# Altium footprint library libreriaPcb.PcbLib: 683 footprints (part 41 of 44)
Each footprint in its own frame and in the unit in brackets; x right, y up, seen from the top. Pads: shape width x height; smd on the part's side, far side on the other; paste and mask are expansions set on the pad; w line width, h text height; cw(c..) or ccw(c..) is an arc to the next point about the centre after c.
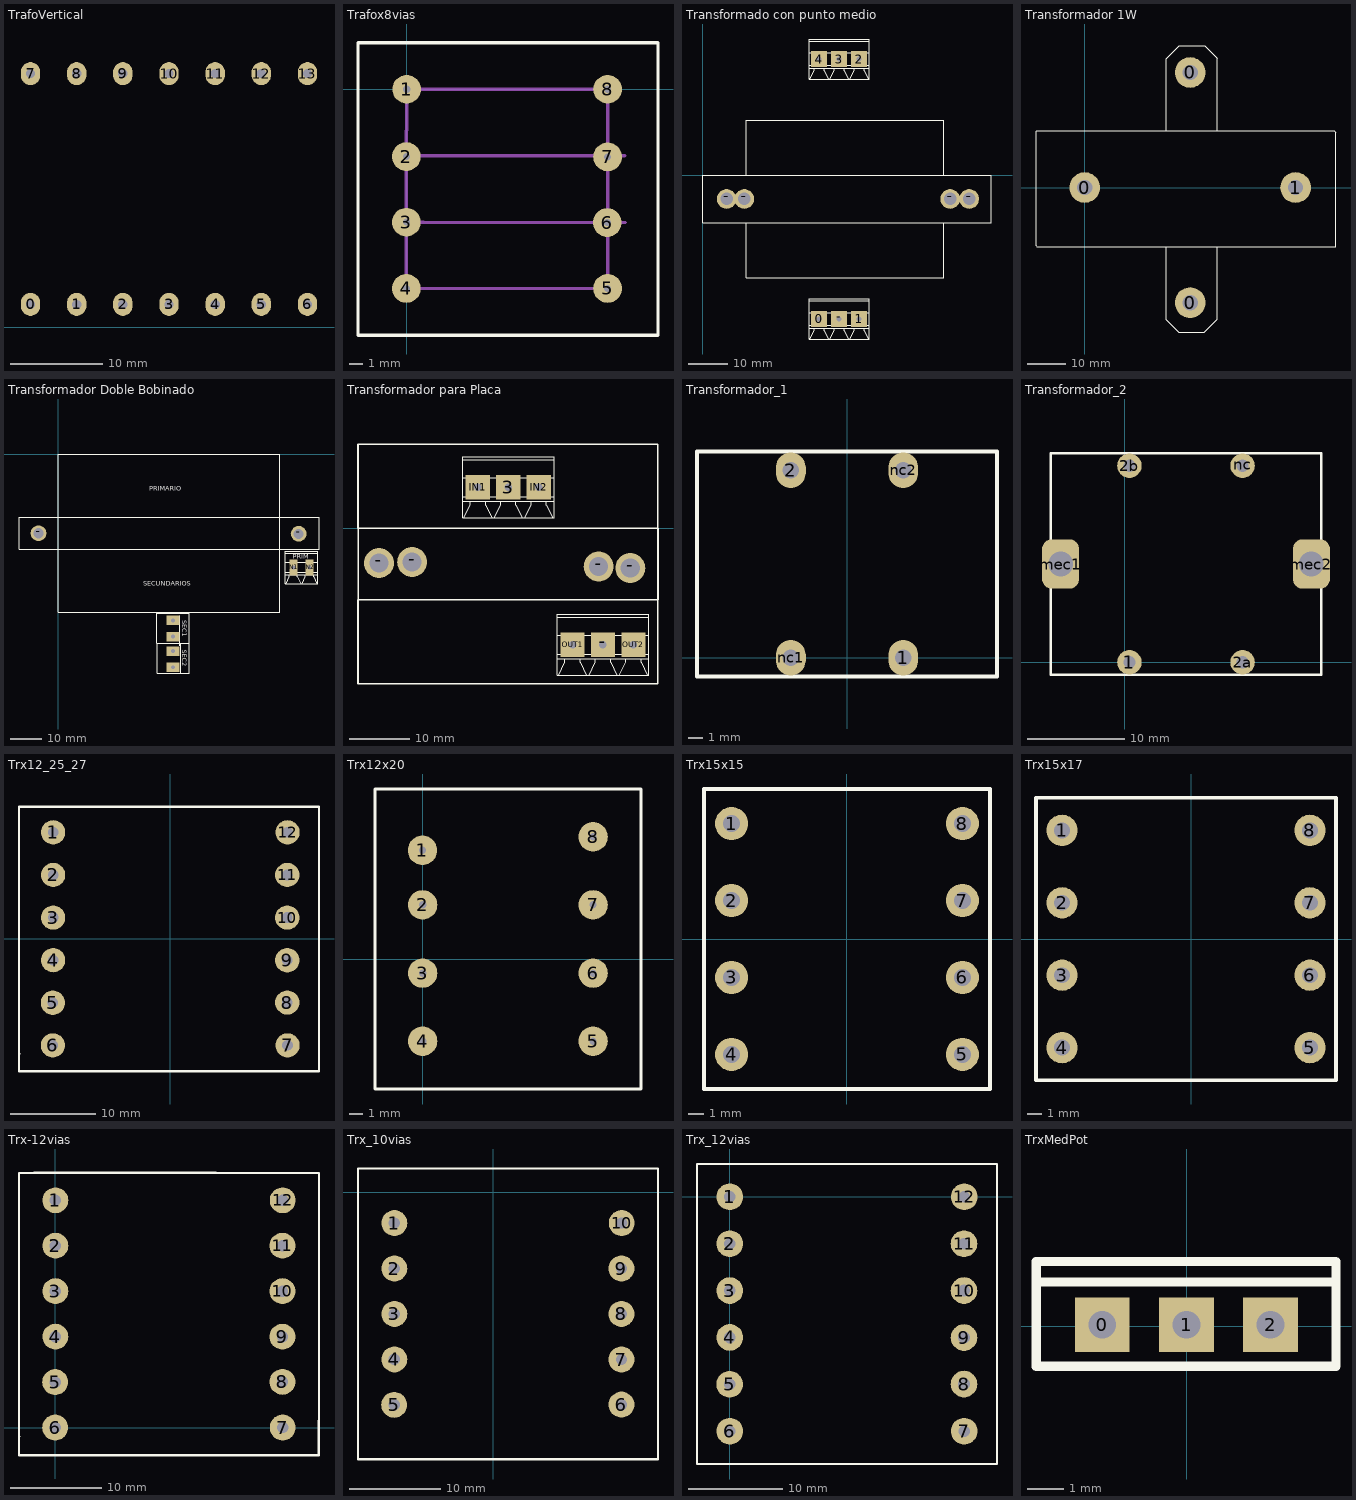
[diagram p40: the footprints below, top view; thin cyan lines are the x and y axes]

## TrafoVertical [mm]
height 50
pads (14):
  oval 2.1x2.5 hole 1: 0(6,2.5) 1(11,2.5) 2(16,2.5) 3(21,2.5) 4(26,2.5) 5(31,2.5) 6(36,2.5) 7(6,27.5) 8(11,27.5) 9(16,27.5) 10(21,27.5) 11(26,27.5) 12(31,27.5) 13(36,27.5)
3D body: height 15, standoff 12, extent 7.111,1.028 35,28.973
3D body: height 43, standoff 40, extent 7.11,1.028 35,28.972
3D body: height 50, standoff 43, extent 0,7.5 42,22.5
3D body: height 43, standoff 11.5, extent 34,7.5 42,22.5
3D body: height 43, standoff 11.5, extent 0,7.5 8,22.5
3D body: height 11.5, standoff 4.5, extent 0,7.5 42,22.5
3D body: height 42, standoff 12, extent 13.063,7.016 29,22.984
3D body: height 12, standoff 0, extent 0,23.25 42,29.75
3D body: height 12, standoff 0, extent 0,0 42,6.5

## Trafox8vias [mil]
pads (8):
  round 85 hole 21: 1(0,0) 2(-1,-199) 3(-1,-393) 4(-1,-589) 5(594,-589) 6(593,-394) 7(594,-200) 8(594,0)
Top Overlay:
  lines w10: -144,-727.56 743,-727.56 743,-37.53 743,137.8 -26.17,137.8 -144,137.8 -144,-35.31 -144,-158.94 -144,-727.56
Mechanical 1:
  lines w10: -13,-196.46 51,-196.46 645,-196.46 ; 51,-393.31 -12,-393.31 -12,-394 647,-394 ; -1,-589 -1,-122.46 0,-121.46 0,0 594,0 594,-589 -1,-589
3D body: height 393.7, standoff 196.85, extent -148.8,-738 751.2,147.8
3D body: height 590.55, standoff 39.37, extent -145,-732.56 741,142.8

## Transformado con punto medio [mm]
height 50
pads (10):
  rect 4.064x4.064 hole 1.25: 0(29.42,-36.4) 1(39.58,-36.4) 2(39.58,29.475) 3(34.5,29.475) 4(29.42,29.475) -(34.5,-36.4)
  round 5 hole 3.2: -(6,-5.975) -(10.475,-5.975) -(62.65,-5.975) -(67.475,-5.975)
Top Overlay:
  lines w0.203: 26.88,-38.728 42.12,-38.728 ; 26.88,-37.966 42.12,-37.966 ; 26.88,-34.791 42.12,-34.791 ; 26.88,-31.828 42.12,-31.828 ; 26.88,27.147 42.12,27.147 ; 26.88,27.909 42.12,27.909 ; 26.88,31.084 42.12,31.084 ; 26.88,34.047 42.12,34.047 ; 27.092,-41.48 28.15,-39.363 28.15,-38.728 ; 27.092,24.395 28.15,26.512 28.15,27.147 ; 30.69,-38.728 30.69,-39.363 31.748,-41.48 ; 30.69,27.147 30.69,26.512 31.748,24.395 ; 32.172,-41.48 33.23,-39.363 33.23,-38.728 ; 32.172,24.395 33.23,26.512 33.23,27.147 ; 35.77,-38.728 35.77,-39.363 36.828,-41.48 ; 35.77,27.147 35.77,26.512 36.828,24.395 ; 37.252,-41.48 38.31,-39.363 38.31,-38.728 ; 37.252,24.395 38.31,26.512 38.31,27.147 ; 40.85,-38.728 40.85,-39.363 41.908,-41.48 ; 40.85,27.147 40.85,26.512 41.908,24.395 ; 26.88,-41.48 42.12,-41.48 42.12,-31.32 26.88,-31.32 26.88,-41.48 ; 26.88,24.395 26.88,34.555 42.12,34.555 42.12,24.395 26.88,24.395
  lines w0.254: 11,-12 11,-26 61,-26 61,-12 ; 11,0 11,14 61,14 61,0.075 60.975,0.05 ; 0,-12 0,0 73,0 73,-12 0,-12

## Transformador 1W [mm]
pads (4):
  round 8 hole 4: 0(0,0) 0(27.5,-30) 0(27.5,30) 1(54.991,0)
Top Overlay:
  lines w0.254: -12.7,14.859 65.024,14.859 65.532,14.351 65.532,-15.494 -12.446,-15.494 -12.7,-15.24 ; 21.209,-15.621 21.209,-34.417 24.511,-37.719 31.115,-37.719 34.544,-34.29 34.544,-15.621 ; 21.209,14.859 21.209,33.528 24.638,36.957 31.242,36.957 34.544,33.655 34.544,14.859 ; -12.7,-15.24 -12.7,14.732 -12.7,-15.24

## Transformador Doble Bobinado [mm]
height 50
pads (8):
  round 5 hole 3.2: -(-6.325,-25) -(76.05,-25.175)
  rect 2.54x5 hole 1.25: IN1(74.413,-35.838) IN2(79.493,-35.838)
  rect 4.064x3 hole 1.25: OUT1(36.275,-52.58) OUT2(36.275,-57.72) OUTB1(36.3,-67.43) OUTB2(36.3,-62.35)
Top Overlay:
  lines w0.203: 31.22,-69.4 41.38,-69.4 ; 31.22,-59.85 41.355,-59.85 ; 38.478,-60.695 38.478,-51.125 ; 71.873,-38.167 82.033,-38.167 ; 71.873,-37.405 82.033,-37.405 ; 71.873,-34.23 82.033,-34.23 ; 71.873,-31.266 82.033,-31.266 ; 72.084,-40.918 73.143,-38.802 73.143,-38.167 ; 75.683,-38.167 75.683,-38.802 76.741,-40.918 ; 77.164,-40.918 78.223,-38.802 78.223,-38.167 ; 80.763,-38.167 80.763,-38.802 81.821,-40.918 ; 31.195,-59.87 38.603,-59.87 41.355,-59.87 41.355,-50.35 31.195,-50.35 31.195,-59.87 ; 71.873,-40.918 82.033,-40.918 82.033,-30.758 71.873,-30.758 71.873,-40.918
  lines w0.254: 31.22,-69.4 31.22,-59.85 ; 38.65,-69.4 38.65,-59.9 ; 41.355,-59.85 41.38,-59.85 41.38,-69.4 ; -12.5,-30 82.5,-30 82.5,-20 -12.5,-20 -12.5,-30 ; 0,-50 70,-50 70,0 0,0 0,-50
  text "SECUNDARIOS" at 26.8,-41.575 h1.52
  text "PRIMARIO" at 28.675,-11.475 h1.52
  text "PRIM" at 74.175,-33.05 h1.52
  text "SEC2" at 39.2,-61.875 h1.52
  text "SEC1" at 39.175,-52.475 h1.52

## Transformador para Placa [mm]
height 50
pads (10):
  rect 4.064x4.064 hole 1.25: 3(36.075,6.8) -(51.85,-19.45) IN1(30.995,6.8) IN2(41.155,6.8) OUT1(46.77,-19.45) OUT2(56.93,-19.45)
  round 5 hole 3.2: -(14.5,-5.85) -(20.025,-5.675) -(51.125,-6.425) -(56.4,-6.675)
Top Overlay:
  lines w0.203: 28.455,4.472 43.695,4.472 ; 28.455,5.234 43.695,5.234 ; 28.455,8.409 43.695,8.409 ; 28.455,11.372 43.695,11.372 ; 28.667,1.72 29.725,3.837 29.725,4.472 ; 32.265,4.472 32.265,3.837 33.323,1.72 ; 33.747,1.72 34.805,3.837 34.805,4.472 ; 37.345,4.472 37.345,3.837 38.403,1.72 ; 38.827,1.72 39.885,3.837 39.885,4.472 ; 42.425,4.472 42.425,3.837 43.483,1.72 ; 44.23,-21.778 59.47,-21.778 ; 44.23,-21.016 59.47,-21.016 ; 44.23,-17.841 59.47,-17.841 ; 44.23,-14.878 59.47,-14.878 ; 44.442,-24.53 45.5,-22.413 45.5,-21.778 ; 48.04,-21.778 48.04,-22.413 49.098,-24.53 ; 49.522,-24.53 50.58,-22.413 50.58,-21.778 ; 53.12,-21.778 53.12,-22.413 54.178,-24.53 ; 54.602,-24.53 55.66,-22.413 55.66,-21.778 ; 58.2,-21.778 58.2,-22.413 59.258,-24.53 ; 28.455,1.72 28.455,11.88 43.695,11.88 43.695,1.72 28.455,1.72 ; 44.23,-24.53 59.47,-24.53 59.47,-14.37 44.23,-14.37 44.23,-24.53
  lines w0.254: 11,-12 11,-26 61,-26 61,-12 ; 11,0 11,14 61,14 61,0.075 60.975,0.05 ; 11.05,-12 11.05,0 61.025,0 61.025,-12 11.05,-12

## Transformador_1 [mil]
pads (4):
  oval 80x95 / inner round 0 / far side oval 80x95 hole 45: 1(150,0) 2(-150,500) nc1(-150,0) nc2(150,500)
Top Overlay:
  lines w10: -400,-50 -400,550 400,550 400,-50 -400,-50

## Transformador_2 [mil]
pads (6):
  round 100 / inner round 0 / far side round 100 hole 50: 1(20,0) 2a(480,0) 2b(20,800) nc(480,800)
  rrect50% 150x200 / inner round 0 / far side rrect50% 150x200 hole 100: mec1(-260,400) mec2(760,400)
Top Overlay:
  lines w10: -300,-50 -300,850 800,850 800,-50 -300,-50

## Trx12_25_27 [mm]
pads (12):
  round 2.85 hole 1.25: 1(-13.745,12.5) 2(-13.745,7.5) 3(-13.745,2.5) 4(-13.745,-2.5) 5(-13.765,-7.5) 6(-13.765,-12.5) 7(13.765,-12.5) 8(13.735,-7.47) 9(13.735,-2.51) 10(13.735,2.5) 11(13.735,7.5) 12(13.765,12.5)
Top Overlay:
  lines w0.254: -17.745,-7.89 -17.745,12.11 ; -17.745,-6.96 -17.745,-13.5 -17.725,-13.48 ; -17.745,9.75 -17.745,15.51 17.455,15.51 17.455,-8.05 ; -17.735,-13.49 -17.735,-15.54 1.595,-15.54 17.442,-15.54 17.456,-8.05
3D body: height 10, standoff 1, extent -17.745,-15.54 17.405,15.51

## Trx12x20 [mil]
pads (8):
  round 85 hole 21: 1(-0.39,314.96) 2(0,157.48) 3(0,-39.37) 4(0,-235.83) 5(491.73,-235.83) 6(491.73,-39.37) 7(491.73,157.48) 8(491.73,353.94)
Top Overlay:
  lines w10: -137.4,-373.62 629.92,-373.62 629.92,254.33 629.92,491.73 -77.17,491.73 -137.4,491.73 -137.4,261.02 -137.4,137.4 -137.4,-373.62
3D body: height 393.7, standoff 39.37, extent -142.4,-378.62 634.92,496.73

## Trx15x15 [mm]
pads (8):
  round 2.159 hole 1.1: 1(-7.5,7.5) 2(-7.5,2.5) 3(-7.5,-2.5) 4(-7.5,-7.5) 5(7.5,-7.5) 6(7.5,-2.5) 7(7.5,2.5) 8(7.5,7.5)
Top Overlay:
  lines w0.254: -9.3,-9.75 -9.3,-7.5 -9.3,9.75 9.3,9.75 9.3,-9.75 -9.3,-9.75
3D body: height 10, standoff 0.1, extent -9.3,-9.75 9.3,9.75

## Trx15x17 [mm]
pads (8):
  round 2.159 hole 1.1: 1(-8.9,7.5) 2(-8.9,2.5) 3(-8.9,-2.5) 4(-8.9,-7.5) 5(8.2,-7.5) 6(8.2,-2.5) 7(8.2,2.5) 8(8.2,7.5)
Top Overlay:
  lines w0.254: -10.7,-9.75 -10.7,-7.5 -10.7,9.75 10,9.75 10,-9.75 -10.7,-9.75
3D body: height 10, standoff 0.1, extent -10.7,-9.75 10,9.75

## Trx-12vias [mm]
height 20
pads (12):
  round 2.85 hole 1.25: 1(0.02,25) 2(0.02,20) 3(0.02,15) 4(0.02,10) 5(0,5) 6(0,0) 7(25.03,0) 8(25,5.03) 9(25,9.99) 10(25,15) 11(25,20) 12(25.03,25)
Top Layer:
  lines w0.254: 25.97,25 25.98,25.01
Top Overlay:
  lines w0.254: -3.98,4.61 -3.98,24.61 ; -3.98,5.54 -3.98,-1 -3.96,-0.98 ; -3.98,22.25 -3.98,28.01 -1.75,28.01 ; -3.97,-0.99 -3.97,-3.04 15.36,-3.04 29.006,-3.04 29.02,4.72 ; -2.33,28.02 17.67,28.02 ; 15.2,28.01 29.02,28.01 29.02,22.69 ; 29.02,4.45 29.02,24.45
3D body: height 10, standoff 1, extent -3.98,-3.04 29.02,28.01

## Trx_10vias [mm]
pads (10):
  round 2.85 hole 1.25: 1(-10.88,-3.41) 2(-10.88,-8.41) 3(-10.88,-13.41) 4(-10.88,-18.41) 5(-10.9,-23.41) 6(14.1,-23.38) 7(14.1,-18.42) 8(14.1,-13.41) 9(14.1,-8.41) 10(14.13,-3.41)
Top Layer:
  lines w0.254: 15.07,-3.41 15.08,-3.4
Top Overlay:
  lines w0.254: -14.88,-23.8 -14.88,-3.8 ; -14.88,-22.87 -14.88,-29.41 -14.86,-29.39 -13.11,-29.39 ; -14.88,-6.16 -14.88,2.58 -12.65,2.58 ; -13.81,-29.39 6.19,-29.39 ; -13.23,2.58 6.77,2.58 ; 4.3,2.58 18.12,2.58 18.12,-5.72 ; 4.46,-29.39 18.11,-29.39 18.12,-23.69 ; 18.12,-23.96 18.12,-3.96
3D body: height 10, standoff 1, extent -15.007,-29.537 18.247,2.707

## Trx_12vias [mm]
pads (12):
  round 2.85 hole 1.25: 1(0,0) 2(0,-5) 3(0,-10) 4(0,-15) 5(-0.02,-20) 6(0,-25) 7(25,-25) 8(24.98,-19.97) 9(24.98,-15.01) 10(24.98,-10) 11(24.98,-5) 12(25.01,0)
Top Layer:
  lines w0.254: 25.95,0 25.96,0.01
Top Overlay:
  lines w0.254: -3.5,-28.5 -3.5,3.5 -2.5,3.5 27.5,3.5 28.5,3.5 28.5,2.5 28.5,-28.5 -3.5,-28.5
3D body: height 20, standoff 16, extent 20.32,-22.53 22.073,-2.108
3D body: height 20, standoff 16, extent 2.972,-22.53 4.724,-2.108
3D body: height 7, standoff 0, extent 22.079,-28.607 27.584,3.627
3D body: height 19, standoff 16, extent 4.801,-22.53 20.193,-2.108
3D body: height 7, standoff 0, extent -2.667,-28.627 2.921,3.607
3D body: height 16, standoff 7, extent -3.627,-28.627 28.627,3.627

## TrxMedPot [mm]
pads (3):
  rect 1.5x1.5 hole 0.762: 0(-2.32,0.05) 1(-0.01,0.05) 2(2.29,0.05)
Top Overlay:
  lines w0.254: -4.126,1.22 4.084,1.22 ; -4.126,1.22 -4.126,1.53 -4.136,1.78 4.074,1.78 4.084,1.53 4.084,1.22 ; -4.126,1.22 -4.126,-1.096 -4.12,-1.09 4.084,-1.09 4.084,1.22